# Altium footprint library custom.PcbLib: 39 footprints (part 2 of 3)
Each footprint in its own frame and in the unit in brackets; x right, y up, seen from the top. Pads: shape width x height; smd on the part's side, far side on the other; paste and mask are expansions set on the pad; w line width, h text height; cw(c..) or ccw(c..) is an arc to the next point about the centre after c.
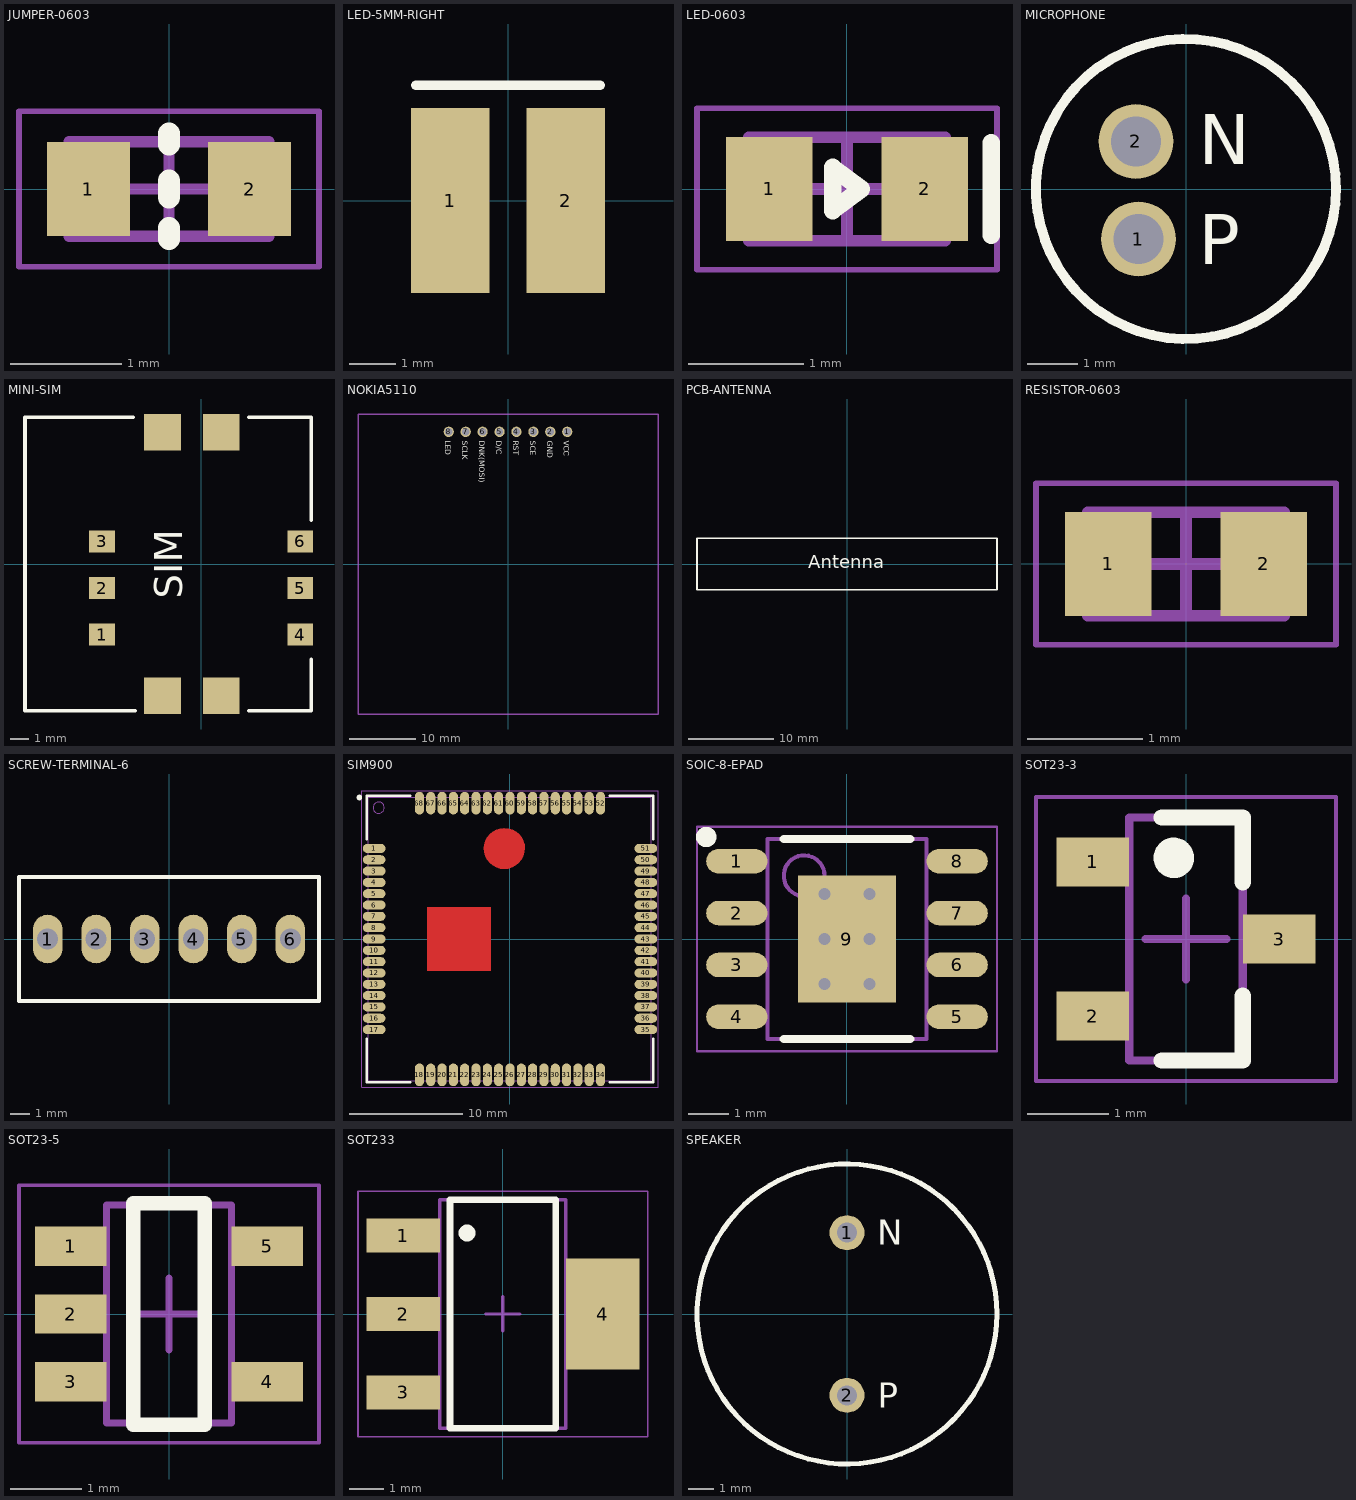
[diagram p1: the footprints below, top view; thin cyan lines are the x and y axes]

## JUMPER-0603 [mm] "0604 (1608) resistor based jumper"
height 1
pads (2):
  rect 0.75x0.85 smd: 1(-0.725,0) 2(0.725,0)
Top Overlay:
  lines w0.2: 0,-0.45 0,-0.35 ; 0,-0.075 0,0.075 ; 0,0.4 0,0.5
Mechanical 13:
  lines w0.1: -0.9,-0.425 -0.9,0.425 0.9,0.425 0.9,-0.425 -0.9,-0.425
Mechanical 15:
  lines w0.05: -1.35,-0.7 -1.35,0.7 1.35,0.7 1.35,-0.7 -1.35,-0.7
  lines w0.1: -0.425,0 0.425,0 ; 0,-0.425 0,0.425
3D body: height 0.5, standoff 0, extent -0.8,-0.4 0.8,0.4

## LED-5MM-RIGHT [mm] "Right-angle 5mm SMD LED"
height 4
pads (2):
  rect 1.7x4 smd: 1(-1.25,0) 2(1.25,0)
Top Overlay:
  lines w0.2: -2,2.5 2,2.5

## LED-0603 [mm] "0603 (1608) LED"
height 1
pads (2):
  rect 0.75x0.9 smd: 1(-0.675,0) 2(0.675,0)
Top Overlay:
  lines w0.152: 1.25,-0.4 1.25,0.4 ; -0.125,-0.188 0.125,0 -0.125,0.188 -0.125,-0.188
Mechanical 13:
  lines w0.1: -0.85,-0.45 -0.85,0.45 0.85,0.45 0.85,-0.45 -0.85,-0.45
Mechanical 15:
  lines w0.05: -1.3,-0.7 -1.3,0.7 1.3,0.7 1.3,-0.7 -1.3,-0.7
  lines w0.1: -0.45,0 0.45,0 ; 0,-0.45 0,0.45
3D body: height 0.66, standoff -0.02, extent -0.85,-0.362 0.8,0.363

## MI0283QT [mm] "MI0283QT TFT"
3D body: height 4.2, standoff -2.85, extent -34.575,-25.125 34.675,24.875

## MICROPHONE [mm] "Microphone"
height 2.7
pads (2):
  round 1.5 hole 1: 1(-0.95,-1) 2(-1,0.95)
Top Overlay:
  circle w0.2: c0,0 r3
  text "N" at 0.25,0.5 h1
  text "P" at 0.25,-1.5 h1
3D body: height 2.7, standoff -2.8, extent -3,-3 3,3

## MINI-SIM [mm] "Mini SIM-card holder"
height 2.8
pads (10):
  rect 1.4x1.2 smd: 1(-5.4,-3.85) 2(-5.4,-1.31) 3(-5.4,1.23) 4(5.4,-3.85) 5(5.4,-1.31) 6(5.4,1.23)
  rect 2x2 smd: ""(-2.1,-7.175) ""(-2.1,7.175) ""(1.1,-7.175) ""(1.1,7.175)
Top Overlay:
  lines w0.2: -3.7,8 -9.6,8 -9.6,-8 -3.6,-8 ; 2.6,-8 6,-8 6,-5.2 ; 2.6,8 6,8 6,2.4
  text "SIM" at -1.038,-1.904 h1.52
3D body: height 1.75, standoff -0.05, extent -9.65,-8.2 6.1,8.2

## NOKIA5110 [mm] "Nokia 5110 LCD screen"
height 7.3
pads (8):
  round 1.54 hole 1.1: 1(8.89,19.83) 2(6.35,19.83) 3(3.81,19.83) 4(1.27,19.83) 5(-1.27,19.83) 6(-3.81,19.83) 7(-6.35,19.83) 8(-8.89,19.83)
Top Overlay:
  text "VCC" at 8.39,18.48 h0.81
  text "GND" at 5.85,18.48 h0.81
  text "SCE" at 3.31,18.48 h0.81
  text "RST" at 0.77,18.48 h0.81
  text "D/C" at -1.77,18.48 h0.81
  text "DNK(MOSI)" at -4.31,18.48 h0.81
  text "SCLK" at -6.85,18.48 h0.81
  text "LED" at -9.39,18.48 h0.81
Mechanical 13:
  lines w0.2: -22.5,-22.5 22.5,-22.5 22.5,22.5 -22.5,22.5 -22.5,-22.5

## PCB-ANTENNA [mm] "PCB antenna"
height 1
Top Overlay:
  lines w0.2: -17.5,-3 17.5,-3 17.5,3 -17.5,3 -17.5,-3
  text "Antenna" at -4.5,-0.5 h1.52
3D body: height 1, standoff 0, extent -17.5,-3 17.5,3

## RESISTOR-0603 [mm] "Chip resistor 0603 (1608)"
height 0.45
pads (2):
  rect 0.75x0.9 smd: 1(-0.675,0) 2(0.675,0)
Mechanical 13:
  lines w0.1: -0.85,-0.45 0.85,-0.45 0.85,0.45 -0.85,0.45 -0.85,-0.45
Mechanical 15:
  lines w0.05: -1.3,-0.7 1.3,-0.7 1.3,0.7 -1.3,0.7 -1.3,-0.7
  lines w0.1: -0.45,0 0.45,0 ; 0,-0.45 0,0.45
3D body: height 0.5, standoff 0, extent -0.8,-0.4 0.8,0.4

## SCREW-TERMINAL-6 [mm] "6-terminal screw 2.54mm pitch"
height 10
pads (6):
  oval 1.54x2.54 hole 1.1: 1(-6.35,0) 2(-3.81,0) 3(-1.27,0) 4(1.27,0) 5(3.81,0) 6(6.35,0)
Top Overlay:
  lines w0.2: -7.85,-3.25 0,-3.25 7.85,-3.25 7.85,3.25 0,3.25 -7.85,3.25 -7.85,-3.25

## SIM900 [mm] "SIM900 GSM Module"
height 4
pads (68):
  oval 2x0.8 smd: 1(-12,8) 2(-12,7) 3(-12,6) 4(-12,5) 5(-12,4) 6(-12,3) 7(-12,2) 8(-12,1) 9(-12,0) 10(-12,-1) 11(-12,-2) 12(-12,-3) 13(-12,-4) 14(-12,-5) 15(-12,-6) 16(-12,-7) 17(-12,-8) 35(12,-8) 36(12,-7) 37(12,-6) 38(12,-5) 39(12,-4) 40(12,-3) 41(12,-2) 42(12,-1) 43(12,0) 44(12,1) 45(12,2) 46(12,3) 47(12,4) 48(12,5) 49(12,6) 50(12,7) 51(12,8)
  oval 0.8x2 smd: 18(-8,-12) 19(-7,-12) 20(-6,-12) 21(-5,-12) 22(-4,-12) 23(-3,-12) 24(-2,-12) 25(-1,-12) 26(0,-12) 27(1,-12) 28(2,-12) 29(3,-12) 30(4,-12) 31(5,-12) 32(6,-12) 33(7,-12) 34(8,-12) 52(8,12) 53(7,12) 54(6,12) 55(5,12) 56(4,12) 57(3,12) 58(2,12) 59(1,12) 60(0,12) 61(-1,12) 62(-2,12) 63(-3,12) 64(-4,12) 65(-5,12) 66(-6,12) 67(-7,12) 68(-8,12)
Top Layer:
  pour cut-out: -2.317,8 -2.282,7.647 -2.179,7.308 -2.012,6.995 -1.787,6.721 -1.513,6.496 -1.201,6.329 -0.861,6.226 -0.508,6.191 -0.508,6.2 -0.492,6.191 -0.139,6.226 0.201,6.329 0.513,6.496 0.787,6.721 1.012,6.995 1.179,7.308 1.282,7.647 1.317,8 1.283,8.344 1.183,8.675 1.02,8.979 0.801,9.246 0.534,9.466 0.229,9.629 -0.102,9.729 -0.446,9.763 -0.446,9.754 -0.554,9.763 -0.898,9.729 -1.229,9.629 -1.534,9.466 -1.801,9.246 -2.02,8.979 -2.183,8.675 -2.283,8.344 -2.317,8 -2.309,8
  pour cut-out: -7.3,-2.8 -7.3,2.8 -1.7,2.8 -1.7,-2.8
Top Overlay:
  circle w0.25: c-13.3,12.5 r0.125
  lines w0.2: -12.65,-8.8 -12.65,-12.65 -8.8,-12.65 ; -12.65,8.8 -12.65,12.65 -8.8,12.65 ; 8.8,-12.65 12.65,-12.65 12.65,-8.8 ; 8.8,12.65 12.65,12.65 12.65,8.8
Mechanical 13:
  circle w0.1: c-11.6,11.6 r0.5
  lines w0.1: -12.5,-12.5 12.5,-12.5 12.5,12.5 -12.5,12.5 -12.5,-12.5
Mechanical 15:
  lines w0.05: -13.075,-13.075 13.075,-13.075 13.075,13.075 -13.075,13.075 -13.075,-13.075
3D body: height 3.02, standoff 0, extent -12,-12 12,12

## SOIC-8-EPAD [mm] "8 pin ePad SOIC"
height 1.55
pads (9):
  oval 1.5x0.6 smd: 1(-2.7,1.905) 2(-2.7,0.635) 3(-2.7,-0.635) 4(-2.7,-1.905) 5(2.7,-1.905) 6(2.7,-0.635) 7(2.7,0.635) 8(2.7,1.905)
  rect 2.41x3.1 smd: 9(0,0)
via 0.55,-1.1 diameter 0.6 hole 0.3
via -0.55,-1.1 diameter 0.6 hole 0.3
via 0.55,0 diameter 0.6 hole 0.3
via -0.55,0 diameter 0.6 hole 0.3
via 0.55,1.1 diameter 0.6 hole 0.3
via -0.55,1.1 diameter 0.6 hole 0.3
Top Overlay:
  circle w0.25: c-3.45,2.5 r0.125
  lines w0.2: -1.55,-2.45 1.55,-2.45 ; -1.55,2.45 1.55,2.45
Mechanical 13:
  circle w0.1: c-1.05,1.55 r0.5
  lines w0.1: -1.95,-2.45 1.95,-2.45 1.95,2.45 -1.95,2.45 -1.95,-2.45
Mechanical 15:
  lines w0.05: -3.675,-2.75 3.675,-2.75 3.675,2.75 -3.675,2.75 -3.675,-2.75
  lines w0.1: -0.5,0 0.5,0 ; 0,-0.5 0,0.5
3D body: height 2, standoff 0, extent -3.182,-2.5 2.982,2.5

## SOT23-3 [mm] "SOT23 3-leads mosfet"
height 1.1
pads (3):
  rect 0.9x0.6 smd: 1(-1.15,0.95) 2(-1.15,-0.95) 3(1.15,0)
Top Overlay:
  circle w0.25: c-0.15,1 r0.125
  lines w0.2: -0.3,-1.5 0.7,-1.5 0.7,-0.7 ; -0.3,1.5 0.7,1.5 0.7,0.7
Mechanical 13:
  lines w0.1: -0.7,-1.5 0.7,-1.5 0.7,1.5 -0.7,1.5 -0.7,-1.5
Mechanical 15:
  lines w0.05: -1.85,-1.75 1.85,-1.75 1.85,1.75 -1.85,1.75 -1.85,-1.75
  lines w0.1: -0.5,0 0.5,0 ; 0,-0.5 0,0.5
3D body: height 1.3, standoff 0, extent -1.4,-1.45 1.4,1.45

## SOT23-5 [mm] "SOT23 5-Leads"
height 1.45
pads (5):
  rect 1x0.55 smd: 1(-1.375,0.95) 2(-1.375,0) 3(-1.375,-0.95) 4(1.375,-0.95) 5(1.375,0.95)
Top Overlay:
  lines w0.2: -0.5,-1.55 -0.5,1.55 0.5,1.55 0.5,-1.55 -0.5,-1.55
Mechanical 13:
  lines w0.1: -0.875,-1.525 0.875,-1.525 0.875,1.525 -0.875,1.525 -0.875,-1.525
Mechanical 15:
  lines w0.05: -2.1,-1.8 2.1,-1.8 2.1,1.8 -2.1,1.8 -2.1,-1.8
  lines w0.1: -0.5,0 0.5,0 ; 0,-0.5 0,0.5
3D body: height 1.45, standoff 0, extent -1.4,-1.45 1.4,1.45

## SOT233 [mm] "SOT223 4-Leads"
height 1.8
pads (4):
  rect 2.15x1 smd: 1(-2.925,2.3) 2(-2.925,0) 3(-2.925,-2.3)
  rect 2.15x3.25 smd: 4(2.925,0)
Top Overlay:
  circle w0.25: c-1.05,2.375 r0.125
  lines w0.2: -1.55,-3.35 1.55,-3.35 1.55,3.35 -1.55,3.35 -1.55,-3.35
Mechanical 13:
  lines w0.1: -1.85,-3.35 1.85,-3.35 1.85,3.35 -1.85,3.35 -1.85,-3.35
Mechanical 15:
  lines w0.05: -4.25,-3.6 4.25,-3.6 4.25,3.6 -4.25,3.6 -4.25,-3.6
  lines w0.1: -0.5,0 0.5,0 ; 0,-0.5 0,0.5
3D body: height 1.8, standoff 0.02, extent -1.85,-3.35 1.85,3.35

## SPEAKER [mm] "Speaker"
height 8.7
pads (2):
  round 1.4 hole 0.8: 1(0,3.25) 2(0,-3.25)
Top Overlay:
  circle w0.2: c0,0 r6
  text "P" at 1.225,-3.75 h1
  text "N" at 1.2,2.775 h1
3D body: height 8.5, standoff -5, extent -6,-6 6,6